# Altium schematic symbol library mag_pos.SchLib: 19 symbols
Pins are listed as number, name and electrical type; pins without a type are passive.

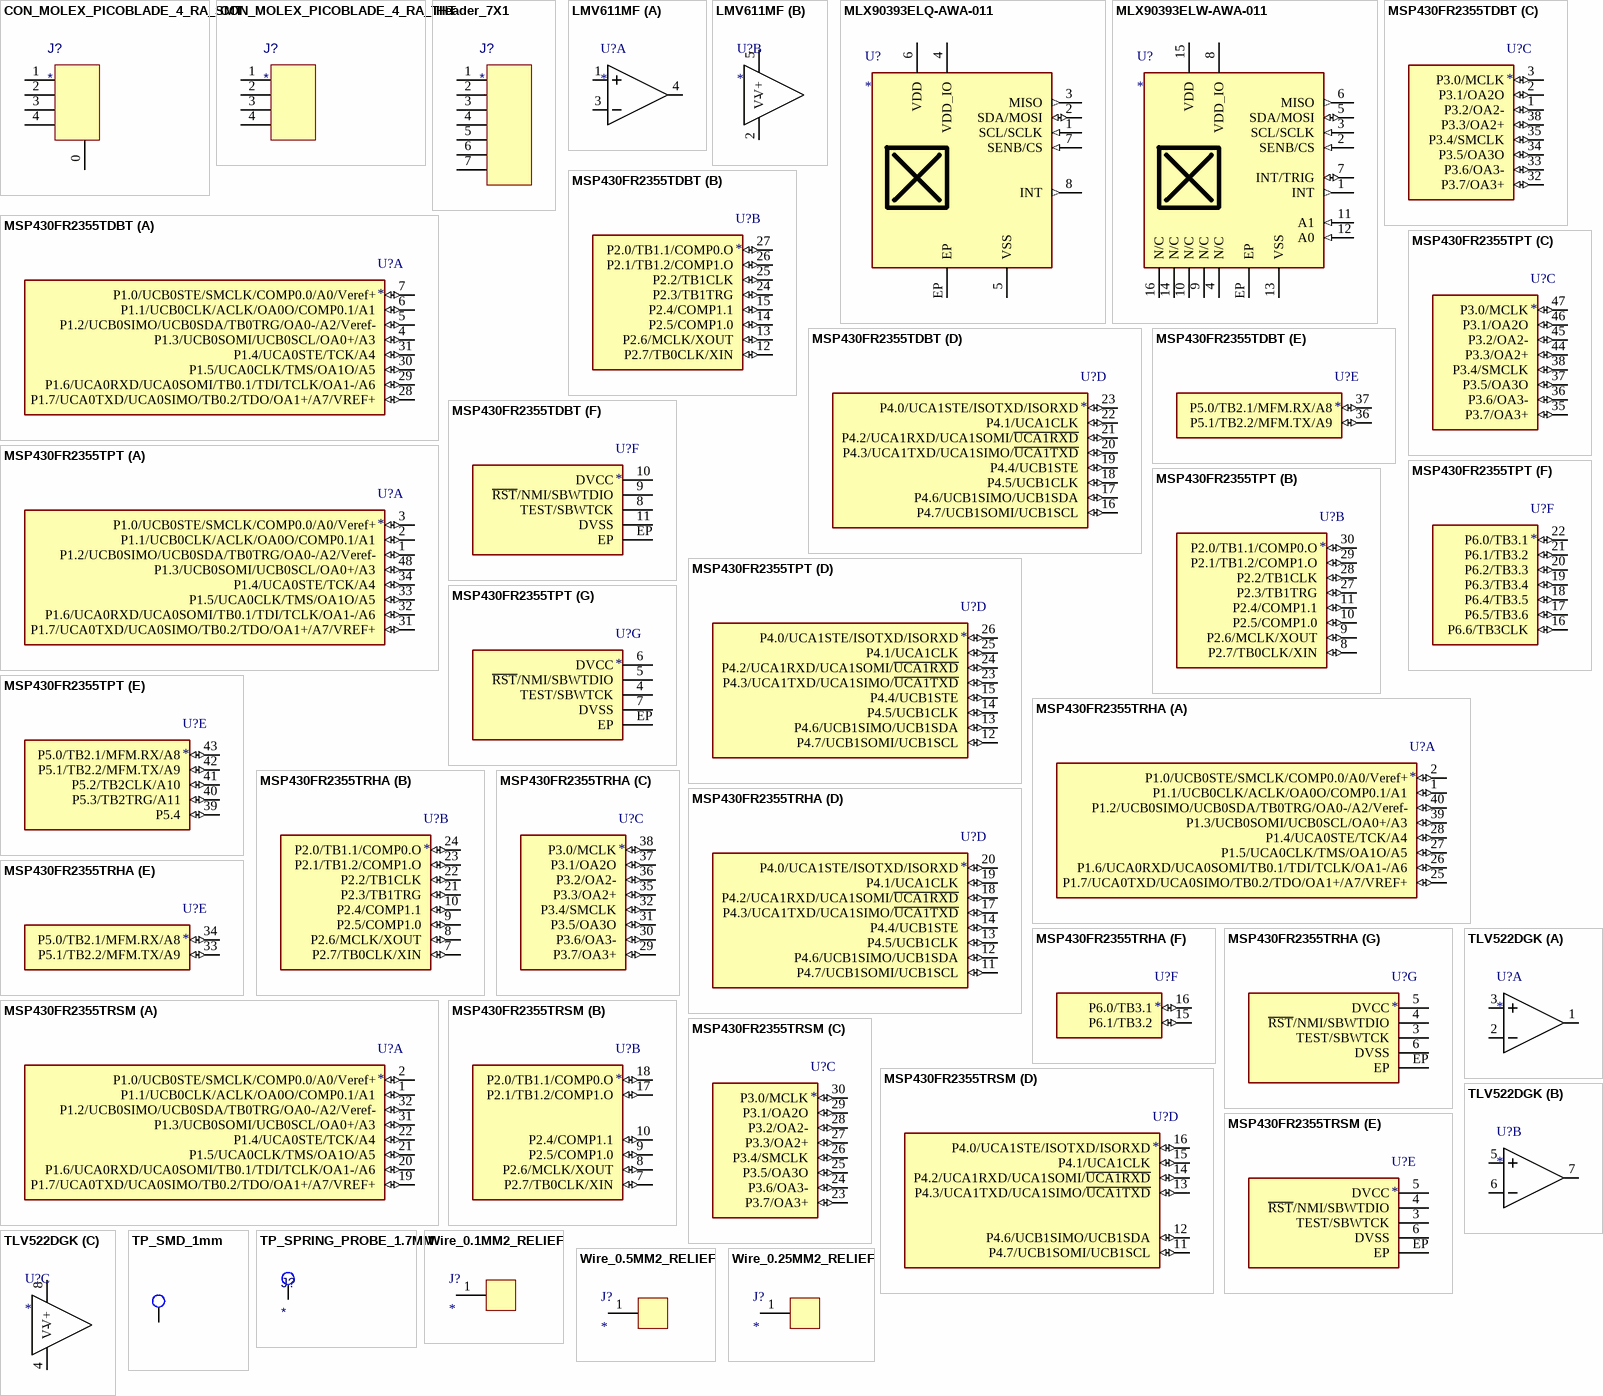
[diagram p0: symbols CON_MOLEX_PICOBLADE_4_RA_SMT to Wire_0.25MM2_RELIEF]

## CON_MOLEX_PICOBLADE_4_RA_SMT
designator J?
Molex Picoblade, 4 pins, Right Angle, SMT, 532617004
footprint CON_MOLEX_PICOBLADE_4_RA_SMT (Molex Picoblade, 4 pins, Right Angle, SMT)
pins: 0, 1, 2, 3, 4

## CON_MOLEX_PICOBLADE_4_RA_THT
designator J?
Molex Picoblade, 4 pins, Right Angle, THT, 532617004
footprint CON_MOLEX_PICOBLADE_4_RA_THT (Molex Picoblade, 4 pins, Right Angle, THT, 532617004 or 532610471)
pins: 1, 2, 3, 4

## Header_7X1
designator J?
Header 7x1 pins
footprint HDRV7W64P254_1X7_1778X254X800P (Header, vertical, 2.54mm pitch, 0.635mm lead width, 7 pins, 1 row, 7 pins per row, 17.78mm L x 2.54mmW x 8.mmmm H body)
pins: 1, 2, 3, 4, 5, 6, 7

## LMV611MF
designator U?
LMV611 SOT-23-5 Single, 1.4-MHz, Low-Power, General-Purpose 1.8-V Operational Amplifier; Manufacturer: TI; Footprint: SOT23-5 (TI DBV); HelpURL: https://www.ti.com/lit/ds/symlink/lmv611.pdf
footprint SOT23-5_1.45 (SOT23-5 1.45mm height (TI DVB0005A))
part A pins: 1 +IN, 3 -IN, 4
part B pins: 2 V-, 5 V+

## MLX90393ELQ-AWA-011
designator U?
Triaxis Magnetic Node, DFN8
footprint DFN40P250X200X40-8 (Dual flat package - 16Pin - 0.4mm spacing - 0.4mm height)
pins: 1 SCL/SCLK (in) "Interface clock", 2 SDA/MOSI (io) "I2C Data / SPI Data In", 3 MISO (out) "SPI Data Out", 4 VDD_IO (power) "Digital Supply Voltage", 5 VSS (power), 6 VDD (power) "Analog Supply Voltage", 7 SENB/CS (in) "Protocol selection / Chip select", 8 INT (out) "Interrupt / Data ready", EP (power)

## MLX90393ELW-AWA-011
designator U?
Triaxis Magnetic Node, QFN16
footprint QFN50P300X300X100-16 (Quad flat nolead package - 16Pin - 0.5mm spacing - 1mm height)
pins: 1 INT (out) "Interrupt / Data ready", 2 SENB/CS (in) "Protocol selection / Chip select", 3 SCL/SCLK (in) "Interface clock", 4 N/C, 5 SDA/MOSI (io) "I2C Data / SPI Data In", 6 MISO (out) "SPI Data Out", 7 INT/TRIG (io) "Interrupt and trigger", 8 VDD_IO (power) "Digital Supply Voltage", 9 N/C, 10 N/C, 11 A1 (in) "I2C address LSB", 12 A0 (in) "I2C address LSB", 13 VSS (power), 14 N/C, 15 VDD (power) "Analog Supply Voltage", 16 N/C, EP

## MSP430FR2355TDBT
designator U?
Mixed-Signal Microcontroller, 16Bit, 32kB FRAM, 4kB SRAM, TSSOP38
footprint SOP50P640X970X120-38 (TSSOP 38Pin 0.5mm pitch 1.2mm height)
part A pins: 4 P1.3/UCB0SOMI/UCB0SCL/OA0+/A3 (io), 5 P1.2/UCB0SIMO/UCB0SDA/TB0TRG/OA0-/A2/Veref- (io), 6 P1.1/UCB0CLK/ACLK/OA0O/COMP0.1/A1 (io), 7 P1.0/UCB0STE/SMCLK/COMP0.0/A0/Veref+ (io), 28 P1.7/UCA0TXD/UCA0SIMO/TB0.2/TDO/OA1+/A7/VREF+ (io), 29 P1.6/UCA0RXD/UCA0SOMI/TB0.1/TDI/TCLK/OA1-/A6 (io), 30 P1.5/UCA0CLK/TMS/OA1O/A5 (io), 31 P1.4/UCA0STE/TCK/A4 (io)
part B pins: 12 P2.7/TB0CLK/XIN (io), 13 P2.6/MCLK/XOUT (io), 14 P2.5/COMP1.0 (io), 15 P2.4/COMP1.1 (io), 24 P2.3/TB1TRG (io), 25 P2.2/TB1CLK (io), 26 P2.1/TB1.2/COMP1.O (io), 27 P2.0/TB1.1/COMP0.O (io)
part C pins: 1 P3.2/OA2- (io), 2 P3.1/OA2O (io), 3 P3.0/MCLK (io), 32 P3.7/OA3+ (io), 33 P3.6/OA3- (io), 34 P3.5/OA3O (io), 35 P3.4/SMCLK (io), 38 P3.3/OA2+ (io)
part D pins: 16 P4.7/UCB1SOMI/UCB1SCL (io), 17 P4.6/UCB1SIMO/UCB1SDA (io), 18 P4.5/UCB1CLK (io), 19 P4.4/UCB1STE (io), 20 P4.3/UCA1TXD/UCA1SIMO/~{UCA1TXD} (io), 21 P4.2/UCA1RXD/UCA1SOMI/~{UCA1RXD} (io), 22 P4.1/UCA1CLK (io), 23 P4.0/UCA1STE/ISOTXD/ISORXD (io)
part E pins: 36 P5.1/TB2.2/MFM.TX/A9 (io), 37 P5.0/TB2.1/MFM.RX/A8 (io)
part F pins: 8 TEST/SBWTCK (power), 9 ~{RST}/NMI/SBWTDIO (power), 10 DVCC (power), 11 DVSS (power), EP (power)

## MSP430FR2355TPT
designator U?
Mixed-Signal Microcontroller, 16Bit, 32kB FRAM, 4kB SRAM, QFP48
footprint QFP50P900X900X160-48 (Quad flat pin package, 48 Pin, 0.5mm Spacing, 1.6mm Height)
part A pins: 1 P1.2/UCB0SIMO/UCB0SDA/TB0TRG/OA0-/A2/Veref- (io), 2 P1.1/UCB0CLK/ACLK/OA0O/COMP0.1/A1 (io), 3 P1.0/UCB0STE/SMCLK/COMP0.0/A0/Veref+ (io), 31 P1.7/UCA0TXD/UCA0SIMO/TB0.2/TDO/OA1+/A7/VREF+ (io), 32 P1.6/UCA0RXD/UCA0SOMI/TB0.1/TDI/TCLK/OA1-/A6 (io), 33 P1.5/UCA0CLK/TMS/OA1O/A5 (io), 34 P1.4/UCA0STE/TCK/A4 (io), 48 P1.3/UCB0SOMI/UCB0SCL/OA0+/A3 (io)
part B pins: 8 P2.7/TB0CLK/XIN (io), 9 P2.6/MCLK/XOUT (io), 10 P2.5/COMP1.0 (io), 11 P2.4/COMP1.1 (io), 27 P2.3/TB1TRG (io), 28 P2.2/TB1CLK (io), 29 P2.1/TB1.2/COMP1.O (io), 30 P2.0/TB1.1/COMP0.O (io)
part C pins: 35 P3.7/OA3+ (io), 36 P3.6/OA3- (io), 37 P3.5/OA3O (io), 38 P3.4/SMCLK (io), 44 P3.3/OA2+ (io), 45 P3.2/OA2- (io), 46 P3.1/OA2O (io), 47 P3.0/MCLK (io)
part D pins: 12 P4.7/UCB1SOMI/UCB1SCL (io), 13 P4.6/UCB1SIMO/UCB1SDA (io), 14 P4.5/UCB1CLK (io), 15 P4.4/UCB1STE (io), 23 P4.3/UCA1TXD/UCA1SIMO/~{UCA1TXD} (io), 24 P4.2/UCA1RXD/UCA1SOMI/~{UCA1RXD} (io), 25 P4.1/UCA1CLK (io), 26 P4.0/UCA1STE/ISOTXD/ISORXD (io)
part E pins: 39 P5.4 (io), 40 P5.3/TB2TRG/A11 (io), 41 P5.2/TB2CLK/A10 (io), 42 P5.1/TB2.2/MFM.TX/A9 (io), 43 P5.0/TB2.1/MFM.RX/A8 (io)
part F pins: 16 P6.6/TB3CLK (io), 17 P6.5/TB3.6 (io), 18 P6.4/TB3.5 (io), 19 P6.3/TB3.4 (io), 20 P6.2/TB3.3 (io), 21 P6.1/TB3.2 (io), 22 P6.0/TB3.1 (io)
part G pins: 4 TEST/SBWTCK (power), 5 ~{RST}/NMI/SBWTDIO (power), 6 DVCC (power), 7 DVSS (power), EP (power)

## MSP430FR2355TRHA
designator U?
Mixed-Signal Microcontroller, 16Bit, 32kB FRAM, 4kB SRAM, QFN40
footprint QFN50P600X600X100-40 (Quad flad no-lead, 40 pin, 0.5mm spacing, 1.0mm height)
part A pins: 1 P1.1/UCB0CLK/ACLK/OA0O/COMP0.1/A1 (io), 2 P1.0/UCB0STE/SMCLK/COMP0.0/A0/Veref+ (io), 25 P1.7/UCA0TXD/UCA0SIMO/TB0.2/TDO/OA1+/A7/VREF+ (io), 26 P1.6/UCA0RXD/UCA0SOMI/TB0.1/TDI/TCLK/OA1-/A6 (io), 27 P1.5/UCA0CLK/TMS/OA1O/A5 (io), 28 P1.4/UCA0STE/TCK/A4 (io), 39 P1.3/UCB0SOMI/UCB0SCL/OA0+/A3 (io), 40 P1.2/UCB0SIMO/UCB0SDA/TB0TRG/OA0-/A2/Veref- (io)
part B pins: 7 P2.7/TB0CLK/XIN (io), 8 P2.6/MCLK/XOUT (io), 9 P2.5/COMP1.0 (io), 10 P2.4/COMP1.1 (io), 21 P2.3/TB1TRG (io), 22 P2.2/TB1CLK (io), 23 P2.1/TB1.2/COMP1.O (io), 24 P2.0/TB1.1/COMP0.O (io)
part C pins: 29 P3.7/OA3+ (io), 30 P3.6/OA3- (io), 31 P3.5/OA3O (io), 32 P3.4/SMCLK (io), 35 P3.3/OA2+ (io), 36 P3.2/OA2- (io), 37 P3.1/OA2O (io), 38 P3.0/MCLK (io)
part D pins: 11 P4.7/UCB1SOMI/UCB1SCL (io), 12 P4.6/UCB1SIMO/UCB1SDA (io), 13 P4.5/UCB1CLK (io), 14 P4.4/UCB1STE (io), 17 P4.3/UCA1TXD/UCA1SIMO/~{UCA1TXD} (io), 18 P4.2/UCA1RXD/UCA1SOMI/~{UCA1RXD} (io), 19 P4.1/UCA1CLK (io), 20 P4.0/UCA1STE/ISOTXD/ISORXD (io)
part E pins: 33 P5.1/TB2.2/MFM.TX/A9 (io), 34 P5.0/TB2.1/MFM.RX/A8 (io)
part F pins: 15 P6.1/TB3.2 (io), 16 P6.0/TB3.1 (io)
part G pins: 3 TEST/SBWTCK (power), 4 ~{RST}/NMI/SBWTDIO (power), 5 DVCC (power), 6 DVSS (power), EP (power)

## MSP430FR2355TRSM
designator U?
Mixed-Signal Microcontroller, 16Bit, 32kB FRAM, 4kB SRAM, QFN32
footprint QFN40P400X400X100-32 (Quad flat no-lead package - 32Pin - 0.4mm spacing - 1mm height)
part A pins: 1 P1.1/UCB0CLK/ACLK/OA0O/COMP0.1/A1 (io), 2 P1.0/UCB0STE/SMCLK/COMP0.0/A0/Veref+ (io), 19 P1.7/UCA0TXD/UCA0SIMO/TB0.2/TDO/OA1+/A7/VREF+ (io), 20 P1.6/UCA0RXD/UCA0SOMI/TB0.1/TDI/TCLK/OA1-/A6 (io), 21 P1.5/UCA0CLK/TMS/OA1O/A5 (io), 22 P1.4/UCA0STE/TCK/A4 (io), 31 P1.3/UCB0SOMI/UCB0SCL/OA0+/A3 (io), 32 P1.2/UCB0SIMO/UCB0SDA/TB0TRG/OA0-/A2/Veref- (io)
part B pins: 7 P2.7/TB0CLK/XIN (io), 8 P2.6/MCLK/XOUT (io), 9 P2.5/COMP1.0 (io), 10 P2.4/COMP1.1 (io), 17 P2.1/TB1.2/COMP1.O (io), 18 P2.0/TB1.1/COMP0.O (io)
part C pins: 23 P3.7/OA3+ (io), 24 P3.6/OA3- (io), 25 P3.5/OA3O (io), 26 P3.4/SMCLK (io), 27 P3.3/OA2+ (io), 28 P3.2/OA2- (io), 29 P3.1/OA2O (io), 30 P3.0/MCLK (io)
part D pins: 11 P4.7/UCB1SOMI/UCB1SCL (io), 12 P4.6/UCB1SIMO/UCB1SDA (io), 13 P4.3/UCA1TXD/UCA1SIMO/~{UCA1TXD} (io), 14 P4.2/UCA1RXD/UCA1SOMI/~{UCA1RXD} (io), 15 P4.1/UCA1CLK (io), 16 P4.0/UCA1STE/ISOTXD/ISORXD (io)
part E pins: 3 TEST/SBWTCK (power), 4 ~{RST}/NMI/SBWTDIO (power), 5 DVCC (power), 6 DVSS (power), EP (power)

## TLV522DGK
designator U?
TLV522 VSSOP-8 Dual Nanopower, 500nA, RRIO CMOS Operational Amplifier; Manufacturer: TI; Footprint: VSSOP-8 (TI DGK); HelpURL: https://www.ti.com/lit/ds/symlink/tlv522.pdf
footprint SOP65P500X300X110-8 (Small outline package, 0.65mm pitch, 8 pin, 1.1mm height (TI DGK0008A))
part A pins: 1 Out, 2 -IN, 3 +IN
part B pins: 5 +IN, 6 -IN, 7 Out
part C pins: 4 V-, 8 V+

## TP_SMD_1mm
designator TP?
Testpoint SMD 1mm
footprint TP_SMD_1MM (Testpoint SMD 1mm)
pins: 1

## TP_SPRING_PROBE_1.7MM
designator J?
Spring probe sleeve 1.7mm hole diameter, 2.5mm pad size, Harwin S25-022; System: Connector
footprint TP_SPRING_PROBE_1.7MM_2.5MM (Spring probe sleeve 1.7mm hole diameter, 2.5mm pad size, Harwin S25-022)
pins: 1

## Wire_0.1MM2_RELIEF
designator J?
0.1mm^2 wire with strain relief; System: Connector
footprint CON_1X1_WIRE_0.1MM2_RELIEF (Connection for a 0.1mm^2 wire with strain relief)
pins: 1

## Wire_0.5MM2_RELIEF
designator J?
0.5mm^2 wire with strain relief; System: Connector
footprint CON_1X1_WIRE_0.5MM2_RELIEF (Connection for a 0.5mm^2 wire with strain relief)
pins: 1

## Wire_0.25MM2_RELIEF
designator J?
0.25mm^2 wire with strain relief; System: Connector
footprint CON_1X1_WIRE_0.25MM2_RELIEF (Connection for a 0.25mm^2 wire with strain relief)
pins: 1

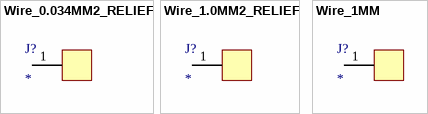
[diagram p1: symbols Wire_0.034MM2_RELIEF to Wire_1MM]

## Wire_0.034MM2_RELIEF
designator J?
0.034mm^2 wire with strain relief; System: Connector
footprint CON_1X1_WIRE_0.034MM2_RELIEF (Connection for a 0.034mm^2 wire with strain relief)
pins: 1

## Wire_1.0MM2_RELIEF
designator J?
1.0mm^2 wire with strain relief; System: Connector
footprint CON_1X1_WIRE_1.0MM2_RELIEF (Connection for a 1.0mm^2 wire with strain relief)
pins: 1

## Wire_1MM
designator J?
1mm Wire; System: Connector
footprint WIRE_1MM_1.5MM_THT (Wire with 1mm diameter, 1.5mm pad diameter)
pins: 1